# EAGLE library part DRV8801 (library 0SBLib)
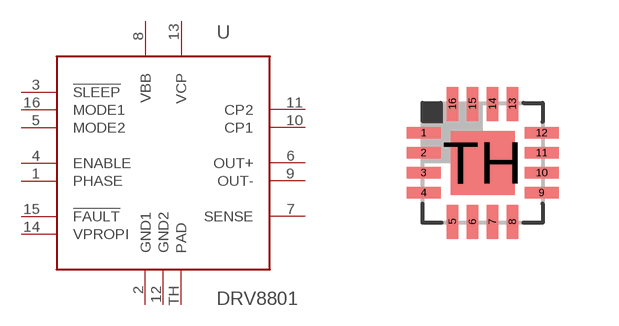
[diagram p32: symbol with the pads of QFN16; footprint QFN16]

Designator prefix -

## DRV8801_QFN  [QFN16]
1  PHASE
2  GND1
3  !SLEEP
4  ENABLE
5  MODE2
6  OUT+
7  SENSE
8  VBB
9  OUT-
10  CP1
11  CP2
12  GND2
13  VCP
14  VPROPI
15  !FAULT
16  MODE1
TH  PAD

## Footprint QFN16 (pad centres in mm)
RTE (S-PQFP-N16) 3x3 mm Source: www.ti.com .. tpa6132a2 direct path stereo $.65.pdf
smd 0.85 x 0.28: 1 -1.475,0.75; 2 -1.475,0.25; 3 -1.475,-0.25; 4 -1.475,-0.75; 9 1.475,-0.75; 10 1.475,-0.25; 11 1.475,0.25; 12 1.475,0.75
smd 0.28 x 0.85: 5 -0.75,-1.475; 6 -0.25,-1.475; 7 0.25,-1.475; 8 0.75,-1.475; 13 0.75,1.475; 14 0.25,1.475; 15 -0.25,1.475; 16 -0.75,1.475
smd 1.6 x 1.6: TH 0,0